# Altium schematic symbol library Pilot.SchLib: 72 symbols (part 3 of 3)
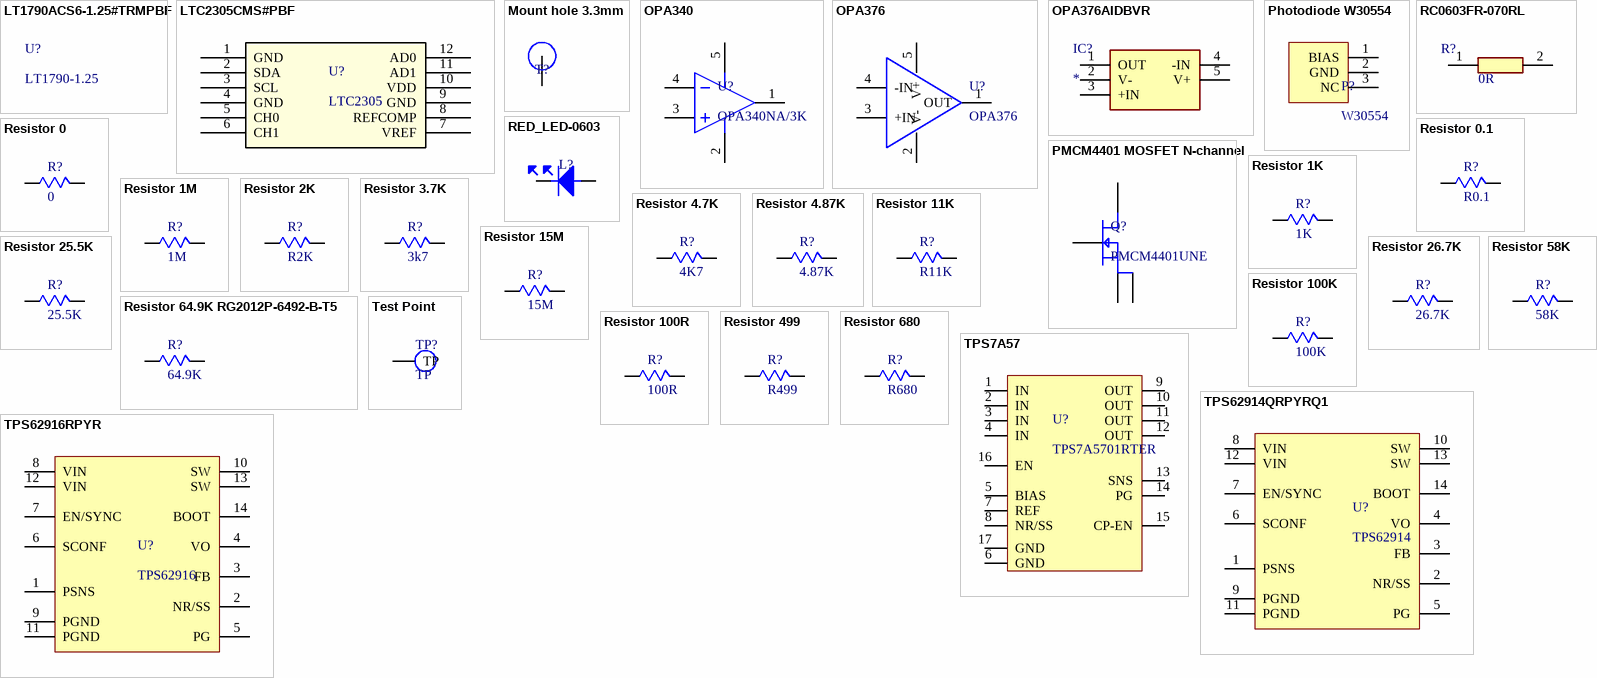
[diagram p3: symbols LT1790ACS6-1.25#TRMPBF to TPS62916RPYR]

## Resistor 680
designator R?, comment R680
Res Thin Film 0603 680 Ohm 0.1% 0.1W(1/10W) ±25ppm/°C Molded SMD Punched Carrier T/R; Manufacturer: Panasonic; Manufacturer Part Number: ERA-3AEB681V; Supplier: Mouser; Supplier Part Number: 667-ERA-3AEB681V; RoHS: Yes; Category: Chip SMD Resistors; Stock: 6548; Pricing: 1=0.1, 10=0.058, 50=0.058, 100=0.055, 1000=0.045, 10000=0.035 (USD); ComponentLink1URL: https://datasheet.ciiva.com/11808/0900766b80fe20f7-11808074.pdf?src-supplier=Rs; ComponentLink1Description: https://datasheet.ciiva.com/11808/0900766b80fe20f7-11808074.pdf?src-supplier=Rs; ComponentLink2URL: https://datasheet.ciiva.com/5860/485442-5860533.pdf?src-supplier=Farnell; ComponentLink2Description: https://datasheet.ciiva.com/5860/485442-5860533.pdf?src-supplier=Farnell; ComponentLink3URL: https://datasheet.ciiva.com/46445/485442-46445756.pdf?src-supplier=Element14; ComponentLink3Description: https://datasheet.ciiva.com/46445/485442-46445756.pdf?src-supplier=Element14; ComponentLink4URL: https://datasheet.ciiva.com/46445/485442-46445757.pdf?src-supplier=Element14; ComponentLink4Description: https://datasheet.ciiva.com/46445/485442-46445757.pdf?src-supplier=Element14; ComponentLink5URL: https://datasheet.ciiva.com/9180/aoa0000ce26-9180454.pdf?src-supplier=Avnet; ComponentLink5Description: https://datasheet.ciiva.com/9180/aoa0000ce26-9180454.pdf?src-supplier=Avnet; ComponentLink6URL: https://datasheet.ciiva.com/7944/485442-7944504.pdf?src-supplier=Element14; ComponentLink6Description: https://datasheet.ciiva.com/7944/485442-7944504.pdf?src-supplier=Element14; ComponentLink7URL: https://datasheet.ciiva.com/48425/era-eng-tds-48425485.pdf?src-supplier=Distrelec; ComponentLink7Description: https://datasheet.ciiva.com/48425/era-eng-tds-48425485.pdf?src-supplier=Distrelec; ComponentLink8URL: https://datasheet.ciiva.com/48530/era-eng-tds-48530522.pdf?src-supplier=Distrelec; ComponentLink8Description: https://datasheet.ciiva.com/48530/era-eng-tds-48530522.pdf?src-supplier=Distrelec; ComponentLink9URL: https://datasheet.ciiva.com/22744/39837-22744149.pdf?src-supplier=Element14; ComponentLink9Description: https://datasheet.ciiva.com/22744/39837-22744149.pdf?src-supplier=Element14
footprint RES0603 (Chip Resistor, 2-Leads, Body 1.60x0.80mm, IPC Medium Density)
pins: 1, 2

## Test Point
designator TP?, comment TP
footprint Test point
pins: 1 TP

## TPS7A57
designator U?, comment TPS7A5701RTER
Adjustable Positive LDO Regulator, 0.5V Min, 5.2V Max, 0.11V Dropout, PQCC16; Manufacturer: Texas Instruments; Supplier: Mouser; Supplier Part Number: 595-TPS7A5701RTER; Manufacturer Part Number: TPS7A5701RTER; RoHS: No; Category: Integrated Circuits (ICs); Stock: 6730; Pricing: 1=11.71, 10=9.19, 50=8.56, 100=7.87, 1000=7.17, 10000=6.88 (USD); Pins: 16NUMBER; Length: 3mm; Width: 3mm; Height: 800um; Thickness: 750um; Supplier 1: Mouser; Supplier Part Number 1: 595-TPS7A5701RTER
footprint WQFN16_RTE_TEX-M
pins: 1 IN, 2 IN, 3 IN, 4 IN, 5 BIAS, 6 GND, 7 REF, 8 NR/SS, 9 OUT, 10 OUT, 11 OUT, 12 OUT, 13 SNS, 14 PG, 15 CP-EN, 16 EN, 17 GND

## TPS62914QRPYRQ1
designator U?, comment TPS62914
Automotive, 3V to 17V input, 4.5A low-noise buck converter with integrated ferrite bead filter 14-VQFN-HR -55 to 150; Manufacturer: Texas Instruments; Manufacturer Part Number: TPS62914QRPYRQ1; Supplier: Mouser; Supplier Part Number: 595-TPS62914QRPYRQ1; RoHS: No; Category: Voltage Regulators - Switching; Stock: 2386; Pins: 14NUMBER; Length: 3mm; Width: 2.5mm; Height: 1mm; Thickness: 900um
pins: 1 PSNS, 2 NR/SS, 3 FB, 4 VO, 5 PG, 6 SCONF, 7 EN/SYNC, 8 VIN, 9 PGND, 10 SW, 11 PGND, 12 VIN, 13 SW, 14 BOOT

## TPS62916RPYR
designator U?, comment TPS62916
17-VIN, 6-A low-noise low-ripple buck converter with integrated ferrite-bead filter&nb 14-VQFN-HR -40 to 150; Manufacturer: Texas Instruments; Manufacturer Part Number: TPS62916RPYR; Supplier: Mouser; Supplier Part Number: 595-TPS62916RPYR; RoHS: No; Stock: 1870; Pricing: 1=3.78, 10=2.86, 50=2.63, 100=2.37, 1000=2.12, 10000=2.03 (USD); Pins: 14; Length: 3mm; Width: 2.5mm; Height: 1mm; Thickness: 900um; Supplier 1: Mouser; Supplier Part Number 1: 595-TPS62916RPYR
footprint RPY0014A-MFG
pins: 1 PSNS, 2 NR/SS, 3 FB, 4 VO, 5 PG, 6 SCONF, 7 EN/SYNC, 8 VIN, 9 PGND, 10 SW, 11 PGND, 12 VIN, 13 SW, 14 BOOT